# EAGLE library part V__VFD_4-LT-46ZB3 (library ++Bedrahtet)
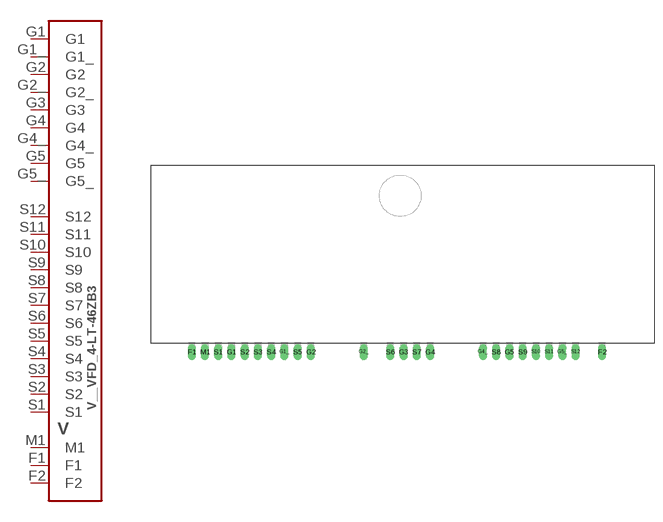
[diagram p59: symbol with the pads of VFD_4-LT-46ZB3; footprint VFD_4-LT-46ZB3]

Designator prefix V

## V__VFD_4-LT-46ZB3  [VFD_4-LT-46ZB3]
F1  F1
F2  F2
G1  G1
G1_  G1_
G2  G2
G2_  G2_
G3  G3
G4  G4
G4_  G4_
G5  G5
G5_  G5_
M1  M1
S1  S1
S2  S2
S3  S3
S4  S4
S5  S5
S6  S6
S7  S7
S8  S8
S9  S9
S10  S10
S11  S11
S12  S12

## Footprint VFD_4-LT-46ZB3 (pad centres in mm)
drill 1 long: F1 0,0; F2 78.74,0; G1 7.62,0; G1_ 17.78,0; G2 22.86,0; G2_ 33.02,0; G3 40.64,0; G4 45.72,0; G4_ 55.88,0; G5 60.96,0; G5_ 71.12,0; M1 2.54,0; S1 5.08,0; S2 10.16,0; S3 12.7,0; S4 15.24,0; S5 20.32,0; S6 38.1,0; S7 43.18,0; S8 58.42,0; S9 63.5,0; S10 66.04,0; S11 68.58,0; S12 73.66,0